# Altium footprint library Cryst.PcbLib: 5 footprints
Each footprint in its own frame and in the unit in brackets; x right, y up, seen from the top. Pads: shape width x height; smd on the part's side, far side on the other; paste and mask are expansions set on the pad; w line width, h text height; cw(c..) or ccw(c..) is an arc to the next point about the centre after c.
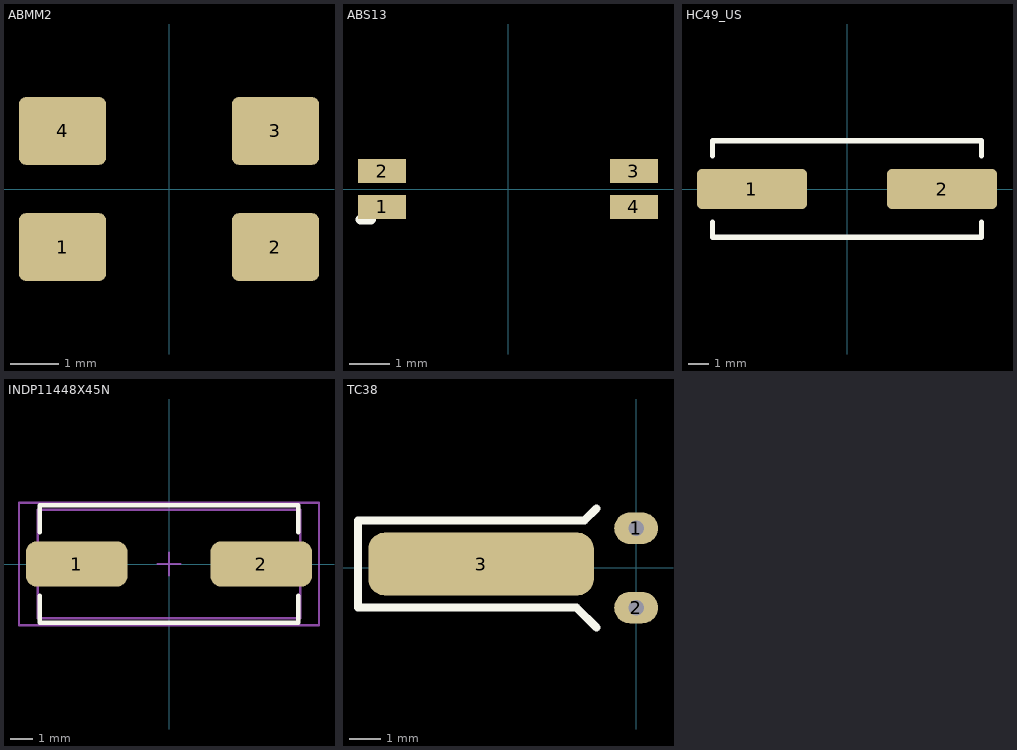
[diagram p0: the footprints below, top view; thin cyan lines are the x and y axes]

## ABMM2 [mm] "ABMM2"
height 1.2
pads (4):
  rrect20% 1.8x1.4 smd: 1(-2.2,-1.2) 2(2.2,-1.2) 3(2.2,1.2) 4(-2.2,1.2)
3D body: height 1.21, standoff 0, extent -3,-1.8 3,1.8

## ABS13 [mm]
pads (4):
  rect 1.2x0.6 smd: 1(-3.15,-0.45) 2(-3.15,0.45) 3(3.15,0.45) 4(3.15,-0.45)
Top Overlay:
  lines w0.254: -3.683,-0.762 -3.429,-0.762
3D body: height 1.4, standoff 0, extent -3.45,-0.738 3.45,0.762

## HC49_US [mm] "HC49_US"
height 3.8
pads (2):
  rrect25% 5.5x2 smd: 1(-4.75,0) 2(4.75,0)
Top Overlay:
  lines w0.254: -6.731,-1.651 -6.731,-2.413 6.731,-2.413 6.731,-1.651 ; -6.731,1.651 -6.731,2.413 6.731,2.413 6.731,1.651
3D body: height 3.8, standoff 0, extent -6.7,-2.45 6.7,2.45

## INDP11448X45N [mm] "Precision Wire Wound Inductor, 2-Leads, Body 11.4x4.8mm, IPC Medium Density"
height 4.5
pads (2):
  rrect50% 4.5x2 smd: 1(-4.075,0) 2(4.075,0)
Top Overlay:
  lines w0.2: -5.7,-1.4 -5.7,-2.6 5.7,-2.6 5.7,-1.4 ; -5.7,1.4 -5.7,2.6 5.7,2.6 5.7,1.4
Mechanical 13:
  lines w0.1: -5.8,-2.4 5.8,-2.4 5.8,2.4 -5.8,2.4 -5.8,-2.4
Mechanical 15:
  lines w0.1: -0.5,0 0.5,0 ; 0,-0.5 0,0.5 ; -6.625,-2.7 6.625,-2.7 6.625,2.7 -6.625,2.7 -6.625,-2.7
3D body: height 5.08, standoff 0, extent -6.7,-2.45 6.7,2.45

## TC38 [mm] "TC38 32.768"
height 3.1
pads (3):
  oval 1.4x1 hole 0.5: 1(0,1.27) 2(0,-1.27)
  rrect50% 7.2x2 smd: 3(-4.953,0.127)
Top Overlay:
  lines w0.254: -1.27,-1.905 -1.905,-1.27 -8.89,-1.27 -8.89,1.524 -1.651,1.524 -1.27,1.905
3D body: height 2.25, standoff 0, extent -8.687,-1.266 0.813,1.524